# EAGLE library part 10090926-P264XLF (library 10090926-P264XLF)
26 Position D-Sub, High Density Plug, Male Pins Connector Source: Datasheet <https://cdn.amphenol-cs.com/media/wysiwyg/files/drawing/10090926.pdf>
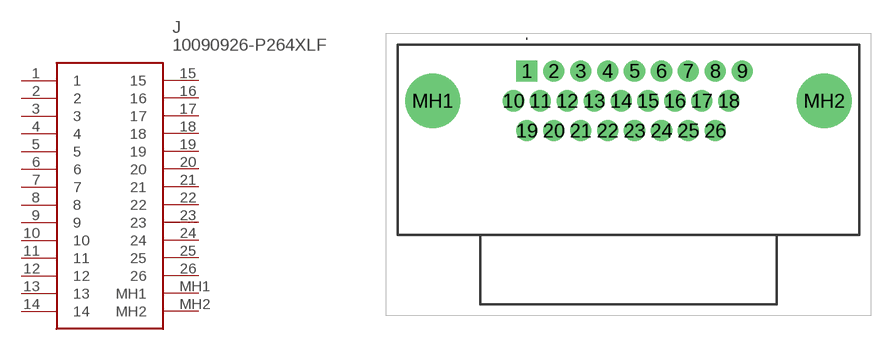
[diagram p0: symbol with the pads of 10090926P264XLF; footprint 10090926P264XLF]

Designator prefix J

## 10090926-P264XLF (Description: 26 Position D-Sub, High Density Plug, Male Pins Connector; Height: 12.8mm; Manufacturer_Name: Amphenol; Manufacturer_Part_Number: 10090926-P264XLF; Mouser_Part_Number: 649-10090926-P264XLF; Mouser_Price-Stock: https://www.mouser.co.uk/ProductDetail/Amphenol-FCI/10090926-P264XLF?qs=EnLMdcWnKABFbd55HgNl%252Bg%3D%3D)  [10090926P264XLF]
1  1
2  2
3  3
4  4
5  5
6  6
7  7
8  8
9  9
10  10
11  11
12  12
13  13
14  14
15  15
16  16
17  17
18  18
19  19
20  20
21  21
22  22
23  23
24  24
25  25
26  26
MH1  MH1
MH2  MH2

## Footprint 10090926P264XLF (pad centres in mm)
10090926-P264XLF-6
drill 1.2 pad 1.8 square: 1 0,0
drill 1.2 pad 1.8: 2 2.29,0; 3 4.58,0; 4 6.87,0; 5 9.16,0; 6 11.45,0; 7 13.74,0; 8 16.03,0; 9 18.32,0; 10 -1.145,-2.54; 11 1.145,-2.54; 12 3.435,-2.54; 13 5.725,-2.54; 14 8.015,-2.54; 15 10.305,-2.54; 16 12.595,-2.54; 17 14.885,-2.54; 18 17.175,-2.54; 19 0,-5.08; 20 2.29,-5.08; 21 4.58,-5.08; 22 6.87,-5.08; 23 9.16,-5.08; 24 11.45,-5.08; 25 13.74,-5.08; 26 16.03,-5.08
drill 3.1 pad 4.65: MH1 -8.015,-2.54; MH2 25.305,-2.54